# Altium integrated library NSC LDO.IntLib: 2590 symbols (part 3 of 64)
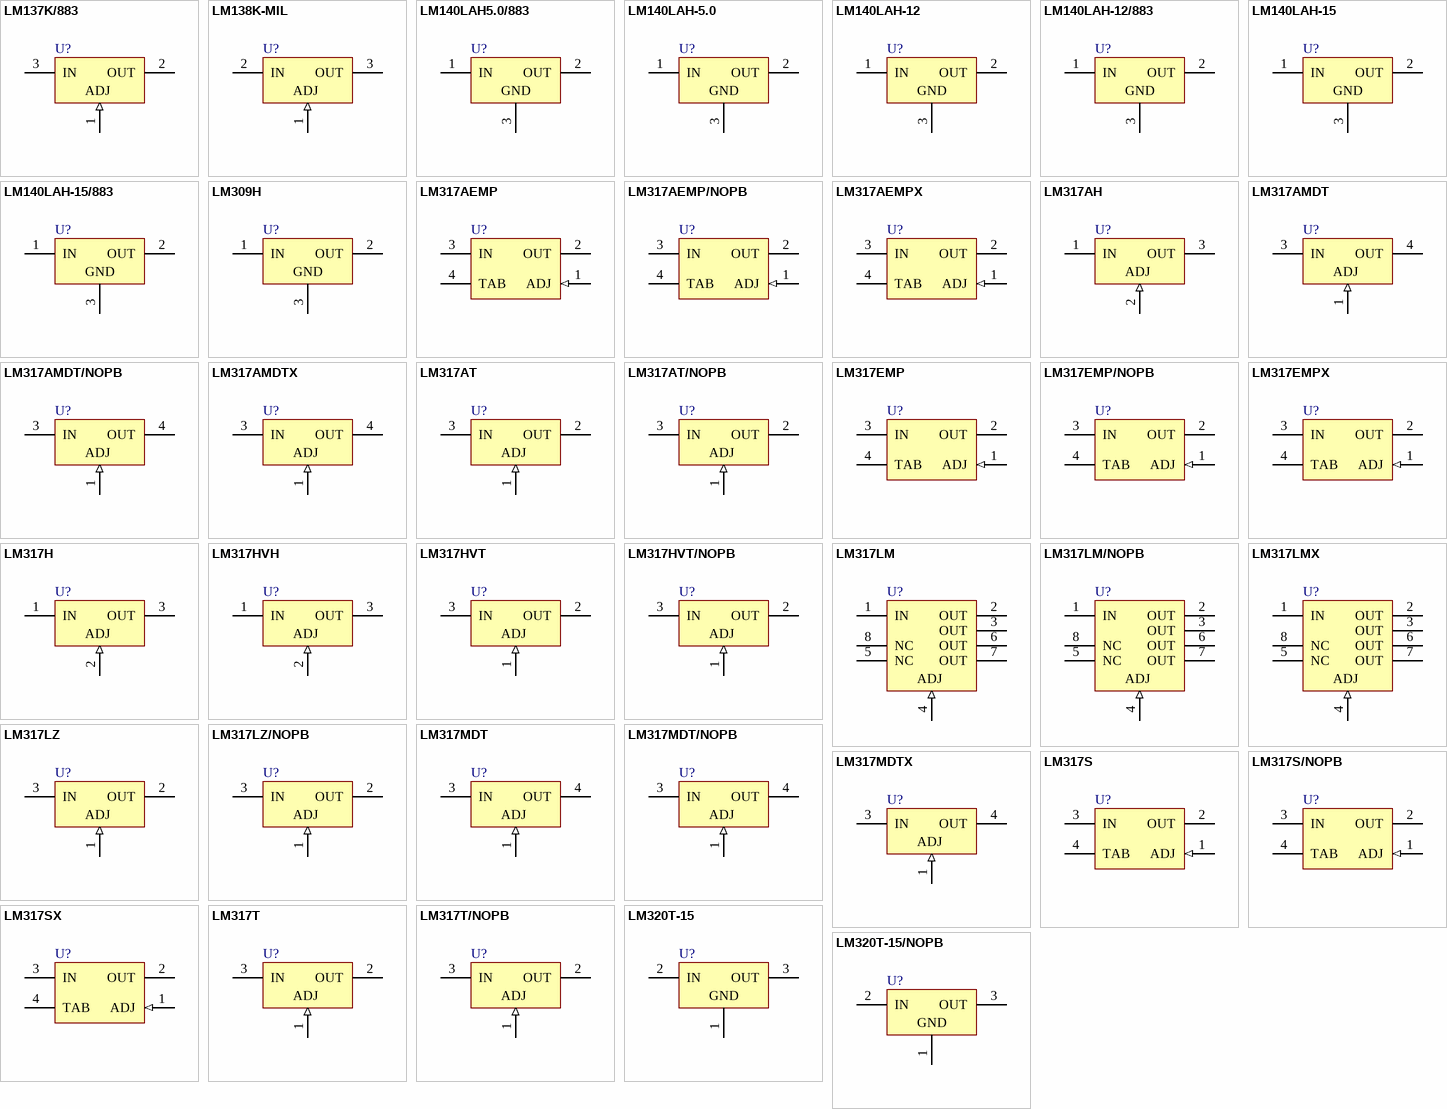
[diagram p67: symbols LM137K/883 to LM320T-15/NOPB]

## LM317EMP/NOPB
designator U?
3-Terminal Adjustable Regulator, 4-pin SOT-223, Pb-Free; PartNumber: LM317EMP/NOPB; Manufacturer: National Semiconductor; PackageTopMarking: XYTT*N01A; PowerWise: N; CompType: LDO IC; Published: 1-Mar-2010; DatasheetVersion: Apr-2007; PackageVersion: revB, Apr-2003; PackageReference: MP04A; Publisher: Altium Limited; PackageDescription: Molded SOT-223, 6.50 x 3.56 x 1.6mm Body, 4 Lead, 2.3mm Pitch; Supplier 1: Digi-Key; Supplier Part Number 1: LM317EMPTR-ND; Supplier 2: Digi-Key; Supplier Part Number 2: LM317EMPCT-ND; Supplier 3: Digi-Key; Supplier Part Number 3: LM317EMPDKR-ND; Supplier 4: Farnell; Supplier Part Number 4: 1469023; RoHS: Y; PinCount: 4; Code_JEDEC: TO-261-AA; Code_IPC: SOT223-4; ComponentLink1Description: LM317 Datasheet; ComponentLink1URL: http://www.national.com/ds/LM/LM317.pdf; ComponentLink2Description: LM317 Web Page; ComponentLink2URL: http://www.national.com/pf/LM/LM317.html; ComponentLink3Description: MP04A Package Page; ComponentLink3URL: http://www.national.com/packaging/folders/mp04a.html
footprint MP04A_N (SOT223, 4-Leads, Body 6.5x3.5mm, Pitch 2.3mm, Lead Span 7mm, IPC Medium Density)
footprint MP04A_L (SOT223, 4-Leads, Body 6.5x3.5mm, Pitch 2.3mm, Lead Span 7mm, IPC High Density)
footprint MP04A_M (SOT223, 4-Leads, Body 6.5x3.5mm, Pitch 2.3mm, Lead Span 7mm, IPC Low Density)
pins: 1 ADJ (in), 2 OUT (power), 3 IN (power), 4 TAB (power)

## LM317EMPX
designator U?
3-Terminal Adjustable Regulator, 4-pin SOT-223; PartNumber: LM317EMPX; Manufacturer: National Semiconductor; PackageTopMarking: XYTT*N01A; PowerWise: N; CompType: LDO IC; Published: 1-Mar-2010; DatasheetVersion: Apr-2007; PackageVersion: revB, Apr-2003; PackageReference: MP04A; Publisher: Altium Limited; PackageDescription: Molded SOT-223, 6.50 x 3.56 x 1.6mm Body, 4 Lead, 2.3mm Pitch; RoHS: N; PinCount: 4; Code_JEDEC: TO-261-AA; Code_IPC: SOT223-4; ComponentLink1Description: LM317 Datasheet; ComponentLink1URL: http://www.national.com/ds/LM/LM317.pdf; ComponentLink2Description: LM317 Web Page; ComponentLink2URL: http://www.national.com/pf/LM/LM317.html; ComponentLink3Description: MP04A Package Page; ComponentLink3URL: http://www.national.com/packaging/folders/mp04a.html
footprint MP04A_N (SOT223, 4-Leads, Body 6.5x3.5mm, Pitch 2.3mm, Lead Span 7mm, IPC Medium Density)
footprint MP04A_L (SOT223, 4-Leads, Body 6.5x3.5mm, Pitch 2.3mm, Lead Span 7mm, IPC High Density)
footprint MP04A_M (SOT223, 4-Leads, Body 6.5x3.5mm, Pitch 2.3mm, Lead Span 7mm, IPC Low Density)
pins: 1 ADJ (in), 2 OUT (power), 3 IN (power), 4 TAB (power)

## LM317H
designator U?
3-Terminal Adjustable Regulator, 3-pin TO-39; PartNumber: LM317H; Manufacturer: National Semiconductor; PackageTopMarking: NSZXYTTE# LM317HP+; PowerWise: N; CompType: LDO IC; High-Reliability: Y; Published: 4-Dec-2008; DatasheetVersion: Apr-2007; PackageVersion: revD, Feb-1995; PackageReference: H03A; Publisher: Altium Limited; PackageDescription: Metal Can, TO-39, 3 Lead, .200in Dia, P.C.; Supplier 1: Farnell; Supplier Part Number 1: 1216175; RoHS: N; PinCount: 3; Code_JEDEC: TO-39; ComponentLink1Description: LM317 Datasheet; ComponentLink1URL: http://www.national.com/ds/LM/LM317.pdf; ComponentLink2Description: LM317 Web Page; ComponentLink2URL: http://www.national.com/pf/LM/LM317.html; ComponentLink3Description: H03A Package Page; ComponentLink3URL: http://www.national.com/packaging/folders/h03a.html
footprint H03A (Can; 3 Leads; Pin Circle Dia. 5.08 mm; Lead Dia. 0.48 mm (max))
pins: 1 IN (power), 2 ADJ (in), 3 OUT (power)

## LM317HVH
designator U?
3-Terminal Adjustable Regulator, 3-pin TO-39; PartNumber: LM317HVH; Manufacturer: National Semiconductor; PackageTopMarking: NSZXYTTE# LM317HVHP+; PowerWise: N; CompType: LDO IC; High-Reliability: Y; Published: 4-Dec-2008; DatasheetVersion: Apr-2000; PackageVersion: revD, Feb-1995; PackageReference: H03A; Publisher: Altium Limited; PackageDescription: Metal Can, TO-39, 3 Lead, .200in Dia, P.C.; Supplier 1: Farnell; Supplier Part Number 1: 1215192; RoHS: N; PinCount: 3; Code_JEDEC: TO-39; ComponentLink1Description: LM317HV Datasheet; ComponentLink1URL: http://www.national.com/ds/LM/LM317HV.pdf; ComponentLink2Description: LM317HV Web Page; ComponentLink2URL: http://www.national.com/pf/LM/LM317HV.html; ComponentLink3Description: H03A Package Page; ComponentLink3URL: http://www.national.com/packaging/folders/h03a.html
footprint H03A (Can; 3 Leads; Pin Circle Dia. 5.08 mm; Lead Dia. 0.48 mm (max))
pins: 1 IN (power), 2 ADJ (in), 3 OUT (power)

## LM317HVT
designator U?
3-Terminal Adjustable Regulator, 3-pin TO-220; PartNumber: LM317HVT; Manufacturer: National Semiconductor; PackageTopMarking: NSUZXYTTE#*LM317*HVT P+; PowerWise: N; CompType: LDO IC; Published: 4-Dec-2008; DatasheetVersion: Apr-2000; PackageVersion: revL, Jan-1992; PackageReference: T03B; Publisher: Altium Limited; PackageDescription: TO-220, Molded, 3 Lead, Straight; Supplier 1: Farnell; Supplier Part Number 1: 9485716; Supplier 2: Farnell; Supplier Part Number 2: 1523823; RoHS: N; PinCount: 3; ComponentLink1Description: LM317HV Datasheet; ComponentLink1URL: http://www.national.com/ds/LM/LM317HV.pdf; ComponentLink2Description: LM317HV Web Page; ComponentLink2URL: http://www.national.com/pf/LM/LM317HV.html; ComponentLink3Description: T03B Package Page; ComponentLink3URL: http://www.national.com/packaging/folders/t03b.html
footprint T03B (TO, Thru-Hole, Vertical, Heatsink Mounted; 3 In-Line Leads; Pitch 2.54 mm)
pins: 1 ADJ (in), 2 OUT (power), 3 IN (power)

## LM317HVT/NOPB
designator U?
3-Terminal Adjustable Regulator, 3-pin TO-220, Pb-Free; PartNumber: LM317HVT/NOPB; Manufacturer: National Semiconductor; PackageTopMarking: NSUZXYTTE#*LM317*HVT P+; PowerWise: N; CompType: LDO IC; Published: 1-Mar-2010; DatasheetVersion: Apr-2000; PackageVersion: revL, Jan-1992; PackageReference: T03B; Publisher: Altium Limited; PackageDescription: TO-220, Molded, 3 Lead, Straight; Supplier 1: Digi-Key; Supplier Part Number 1: LM317HVT-ND; Supplier 2: Farnell; Supplier Part Number 2: 1469086; RoHS: Y; PinCount: 3; ComponentLink1Description: LM317HV Datasheet; ComponentLink1URL: http://www.national.com/ds/LM/LM317HV.pdf; ComponentLink2Description: LM317HV Web Page; ComponentLink2URL: http://www.national.com/pf/LM/LM317HV.html; ComponentLink3Description: T03B Package Page; ComponentLink3URL: http://www.national.com/packaging/folders/t03b.html
footprint T03B (TO, Thru-Hole, Vertical, Heatsink Mounted; 3 In-Line Leads; Pitch 2.54 mm)
pins: 1 ADJ (in), 2 OUT (power), 3 IN (power)

## LM317LM
designator U?
3-Terminal Adjustable Regulator, 8-pin Narrow SOIC; PartNumber: LM317LM; Manufacturer: National Semiconductor; PackageTopMarking: NSZXTT*LM317*LM; PowerWise: N; CompType: LDO IC; Published: 4-Dec-2008; DatasheetVersion: Apr-2008; PackageVersion: revM, May-2009; PackageReference: M08A; Publisher: Altium Limited; PackageDescription: SOIC Narrow, 4.9 x 3.9 x 1.45mm, 8 Lead, 1.27mm Pitch; Supplier 1: Farnell; Supplier Part Number 1: 9488537; RoHS: N; PinCount: 8; Code_JEDEC: MS-012-AA; Code_IPC: SOIC127P600-8; ComponentLink1Description: LM317L Datasheet; ComponentLink1URL: http://www.national.com/ds/LM/LM317L.pdf; ComponentLink2Description: LM317L Web Page; ComponentLink2URL: http://www.national.com/pf/LM/LM317L.html; ComponentLink3Description: M08A Package Page; ComponentLink3URL: http://www.national.com/packaging/folders/m08a.html
footprint M08A_N (SOIC, 8-Leads, Body 4.9x3.9mm, Pitch 1.27mm, IPC Medium Density)
footprint M08A_L (SOIC, 8-Leads, Body 4.9x3.9mm, Pitch 1.27mm, IPC High Density)
footprint M08A_M (SOIC, 8-Leads, Body 4.9x3.9mm, Pitch 1.27mm, IPC Low Density)
pins: 1 IN (power), 2 OUT (power), 3 OUT (power), 4 ADJ (in), 5 NC, 6 OUT (power), 7 OUT (power), 8 NC

## LM317LM/NOPB
designator U?
3-Terminal Adjustable Regulator, 8-pin Narrow SOIC, Pb-Free; PartNumber: LM317LM/NOPB; Manufacturer: National Semiconductor; PackageTopMarking: NSZXTT*LM317*LM; PowerWise: N; CompType: LDO IC; Published: 1-Mar-2010; DatasheetVersion: Apr-2008; PackageVersion: revM, May-2009; PackageReference: M08A; Publisher: Altium Limited; PackageDescription: SOIC Narrow, 4.9 x 3.9 x 1.45mm, 8 Lead, 1.27mm Pitch; Supplier 1: Digi-Key; Supplier Part Number 1: LM317LM-ND; Supplier 2: Farnell; Supplier Part Number 2: 1469087; RoHS: Y; PinCount: 8; Code_JEDEC: MS-012-AA; Code_IPC: SOIC127P600-8; ComponentLink1Description: LM317L Datasheet; ComponentLink1URL: http://www.national.com/ds/LM/LM317L.pdf; ComponentLink2Description: LM317L Web Page; ComponentLink2URL: http://www.national.com/pf/LM/LM317L.html; ComponentLink3Description: M08A Package Page; ComponentLink3URL: http://www.national.com/packaging/folders/m08a.html
footprint M08A_N (SOIC, 8-Leads, Body 4.9x3.9mm, Pitch 1.27mm, IPC Medium Density)
footprint M08A_L (SOIC, 8-Leads, Body 4.9x3.9mm, Pitch 1.27mm, IPC High Density)
footprint M08A_M (SOIC, 8-Leads, Body 4.9x3.9mm, Pitch 1.27mm, IPC Low Density)
pins: 1 IN (power), 2 OUT (power), 3 OUT (power), 4 ADJ (in), 5 NC, 6 OUT (power), 7 OUT (power), 8 NC

## LM317LMX
designator U?
3-Terminal Adjustable Regulator, 8-pin Narrow SOIC; PartNumber: LM317LMX; Manufacturer: National Semiconductor; PackageTopMarking: NSZXTT*LM317*LM; PowerWise: N; CompType: LDO IC; Published: 1-Mar-2010; DatasheetVersion: Apr-2008; PackageVersion: revM, May-2009; PackageReference: M08A; Publisher: Altium Limited; PackageDescription: SOIC Narrow, 4.9 x 3.9 x 1.45mm, 8 Lead, 1.27mm Pitch; RoHS: N; PinCount: 8; Code_JEDEC: MS-012-AA; Code_IPC: SOIC127P600-8; ComponentLink1Description: LM317L Datasheet; ComponentLink1URL: http://www.national.com/ds/LM/LM317L.pdf; ComponentLink2Description: LM317L Web Page; ComponentLink2URL: http://www.national.com/pf/LM/LM317L.html; ComponentLink3Description: M08A Package Page; ComponentLink3URL: http://www.national.com/packaging/folders/m08a.html
footprint M08A_N (SOIC, 8-Leads, Body 4.9x3.9mm, Pitch 1.27mm, IPC Medium Density)
footprint M08A_L (SOIC, 8-Leads, Body 4.9x3.9mm, Pitch 1.27mm, IPC High Density)
footprint M08A_M (SOIC, 8-Leads, Body 4.9x3.9mm, Pitch 1.27mm, IPC Low Density)
pins: 1 IN (power), 2 OUT (power), 3 OUT (power), 4 ADJ (in), 5 NC, 6 OUT (power), 7 OUT (power), 8 NC

## LM317LZ
designator U?
3-Terminal Adjustable Regulator, 3-pin TO-92; PartNumber: LM317LZ; Manufacturer: National Semiconductor; PackageTopMarking: NSXYTT*LM317*LZ; PowerWise: N; CompType: LDO IC; Published: 4-Dec-2008; DatasheetVersion: Apr-2008; PackageVersion: revG, Sep-2000; PackageReference: Z03A; Publisher: Altium Limited; PackageDescription: TO-92, Molded, 3 Lead; RoHS: N; PinCount: 3; Code_JEDEC: TO-226-AA; ComponentLink1Description: LM317L Datasheet; ComponentLink1URL: http://www.national.com/ds/LM/LM317L.pdf; ComponentLink2Description: LM317L Web Page; ComponentLink2URL: http://www.national.com/pf/LM/LM317L.html; ComponentLink3Description: Z03A Package Page; ComponentLink3URL: http://www.national.com/packaging/folders/z03a.html
footprint Z03A (TO, Flat Index; 3 In-Line, Axial Leads; Body Dia. 5mm; Leads 0.55 x 0.50 mm (max))
pins: 1 ADJ (in), 2 OUT (power), 3 IN (power)

## LM317LZ/NOPB
designator U?
3-Terminal Adjustable Regulator, 3-pin TO-92, Pb-Free; PartNumber: LM317LZ/NOPB; Manufacturer: National Semiconductor; PackageTopMarking: NSXYTT*LM317*LZ; PowerWise: N; CompType: LDO IC; Published: 1-Mar-2010; DatasheetVersion: Apr-2008; PackageVersion: revG, Sep-2000; PackageReference: Z03A; Publisher: Altium Limited; PackageDescription: TO-92, Molded, 3 Lead; Supplier 1: Digi-Key; Supplier Part Number 1: LM317LZNS-ND; Supplier 2: Farnell; Supplier Part Number 2: 1469088; RoHS: Y; PinCount: 3; Code_JEDEC: TO-226-AA; ComponentLink1Description: LM317L Datasheet; ComponentLink1URL: http://www.national.com/ds/LM/LM317L.pdf; ComponentLink2Description: LM317L Web Page; ComponentLink2URL: http://www.national.com/pf/LM/LM317L.html; ComponentLink3Description: Z03A Package Page; ComponentLink3URL: http://www.national.com/packaging/folders/z03a.html
footprint Z03A (TO, Flat Index; 3 In-Line, Axial Leads; Body Dia. 5mm; Leads 0.55 x 0.50 mm (max))
pins: 1 ADJ (in), 2 OUT (power), 3 IN (power)

## LM317MDT
designator U?
3-Terminal Adjustable Regulator, 3-pin TO-252; PartNumber: LM317MDT; Manufacturer: National Semiconductor; PackageTopMarking: NSUZXYTT*LM317*MDT; PowerWise: N; CompType: LDO IC; Published: 4-Dec-2008; DatasheetVersion: Apr-2007; PackageVersion: revD, Feb-2009; PackageReference: TD03B; Publisher: Altium Limited; PackageDescription: TO252, Molded, Jedec, 6.8 x 6.10 x 2.30mm Body, 3 Lead, 2.28mm Pitch, Surface Mount; Supplier 1: Farnell; Supplier Part Number 1: 8221928; RoHS: N; PinCount: 3; Code_JEDEC: TO-252-AA; ComponentLink1Description: LM317 Datasheet; ComponentLink1URL: http://www.national.com/ds/LM/LM317.pdf; ComponentLink2Description: LM317 Web Page; ComponentLink2URL: http://www.national.com/pf/LM/LM317.html; ComponentLink3Description: TD03B Package Page; ComponentLink3URL: http://www.national.com/packaging/folders/td03b.html
footprint TD03B_N (D-PAK, 4-Leads, Body 6.1x6.6mm, Pitch 2.29mm, Lead Span 9.7mm, IPC Medium Density)
footprint TD03B_L (D-PAK, 4-Leads, Body 6.1x6.6mm, Pitch 2.29mm, Lead Span 9.7mm, IPC High Density)
footprint TD03B_M (D-PAK, 4-Leads, Body 6.1x6.6mm, Pitch 2.29mm, Lead Span 9.7mm, IPC Low Density)
pins: 1 ADJ (in), 3 IN (power), 4 OUT (power)

## LM317MDT/NOPB
designator U?
3-Terminal Adjustable Regulator, 3-pin TO-252, Pb-Free; PartNumber: LM317MDT/NOPB; Manufacturer: National Semiconductor; PackageTopMarking: NSUZXYTT*LM317*MDT; PowerWise: N; CompType: LDO IC; Published: 1-Mar-2010; DatasheetVersion: Apr-2007; PackageVersion: revD, Feb-2009; PackageReference: TD03B; Publisher: Altium Limited; PackageDescription: TO252, Molded, Jedec, 6.8 x 6.10 x 2.30mm Body, 3 Lead, 2.28mm Pitch, Surface Mount; Supplier 1: Digi-Key; Supplier Part Number 1: LM317MDTNS-ND; Supplier 2: Farnell; Supplier Part Number 2: 1496138; RoHS: Y; PinCount: 3; Code_JEDEC: TO-252-AA; ComponentLink1Description: LM317 Datasheet; ComponentLink1URL: http://www.national.com/ds/LM/LM317.pdf; ComponentLink2Description: LM317 Web Page; ComponentLink2URL: http://www.national.com/pf/LM/LM317.html; ComponentLink3Description: TD03B Package Page; ComponentLink3URL: http://www.national.com/packaging/folders/td03b.html
footprint TD03B_N (D-PAK, 4-Leads, Body 6.1x6.6mm, Pitch 2.29mm, Lead Span 9.7mm, IPC Medium Density)
footprint TD03B_L (D-PAK, 4-Leads, Body 6.1x6.6mm, Pitch 2.29mm, Lead Span 9.7mm, IPC High Density)
footprint TD03B_M (D-PAK, 4-Leads, Body 6.1x6.6mm, Pitch 2.29mm, Lead Span 9.7mm, IPC Low Density)
pins: 1 ADJ (in), 3 IN (power), 4 OUT (power)

## LM317MDTX
designator U?
3-Terminal Adjustable Regulator, 3-pin TO-252; PartNumber: LM317MDTX; Manufacturer: National Semiconductor; PackageTopMarking: NSUZXYTT*LM317*MDT; PowerWise: N; CompType: LDO IC; Published: 1-Mar-2010; DatasheetVersion: Apr-2007; PackageVersion: revD, Feb-2009; PackageReference: TD03B; Publisher: Altium Limited; PackageDescription: TO252, Molded, Jedec, 6.8 x 6.10 x 2.30mm Body, 3 Lead, 2.28mm Pitch, Surface Mount; RoHS: N; PinCount: 3; Code_JEDEC: TO-252-AA; ComponentLink1Description: LM317 Datasheet; ComponentLink1URL: http://www.national.com/ds/LM/LM317.pdf; ComponentLink2Description: LM317 Web Page; ComponentLink2URL: http://www.national.com/pf/LM/LM317.html; ComponentLink3Description: TD03B Package Page; ComponentLink3URL: http://www.national.com/packaging/folders/td03b.html
footprint TD03B_N (D-PAK, 4-Leads, Body 6.1x6.6mm, Pitch 2.29mm, Lead Span 9.7mm, IPC Medium Density)
footprint TD03B_L (D-PAK, 4-Leads, Body 6.1x6.6mm, Pitch 2.29mm, Lead Span 9.7mm, IPC High Density)
footprint TD03B_M (D-PAK, 4-Leads, Body 6.1x6.6mm, Pitch 2.29mm, Lead Span 9.7mm, IPC Low Density)
pins: 1 ADJ (in), 3 IN (power), 4 OUT (power)

## LM317S
designator U?
3-Terminal Adjustable Regulator, 3-pin TO-263; PartNumber: LM317S; Manufacturer: National Semiconductor; PackageTopMarking: NSUZXYTTE#*LM317S*P+; PowerWise: N; CompType: LDO IC; Published: 4-Dec-2008; DatasheetVersion: Apr-2007; PackageVersion: revF, Apr-2005; PackageReference: TS3B; Publisher: Altium Limited; PackageDescription: TO-263, Molded, .400 x .390 x .180in, 3 Lead, .1in Pitch, Surface Mount; Supplier 1: Farnell; Supplier Part Number 1: 9494480; Supplier 2: Farnell; Supplier Part Number 2: 1523866; RoHS: N; PinCount: 3; Code_JEDEC: MO-169-AA; ComponentLink1Description: LM317 Datasheet; ComponentLink1URL: http://www.national.com/ds/LM/LM317.pdf; ComponentLink2Description: LM317 Web Page; ComponentLink2URL: http://www.national.com/pf/LM/LM317.html; ComponentLink3Description: TS3B Package Page; ComponentLink3URL: http://www.national.com/packaging/folders/ts3b.html
footprint TS3B_N (D2-PAK, 4-Leads, Body 8.6x10.2mm, Pitch 2.54mm, Lead Span 14.2mm, IPC Medium Density)
footprint TS3B_L (D2-PAK, 4-Leads, Body 8.6x10.2mm, Pitch 2.54mm, Lead Span 14.2mm, IPC High Density)
footprint TS3B_M (D2-PAK, 4-Leads, Body 8.6x10.2mm, Pitch 2.54mm, Lead Span 14.2mm, IPC Low Density)
pins: 1 ADJ (in), 2 OUT (power), 3 IN (power), 4 TAB (power)

## LM317S/NOPB
designator U?
3-Terminal Adjustable Regulator, 3-pin TO-263, Pb-Free; PartNumber: LM317S/NOPB; Manufacturer: National Semiconductor; PackageTopMarking: NSUZXYTTE#*LM317S*P+; PowerWise: N; CompType: LDO IC; Published: 1-Mar-2010; DatasheetVersion: Apr-2007; PackageVersion: revF, Apr-2005; PackageReference: TS3B; Publisher: Altium Limited; PackageDescription: TO-263, Molded, .400 x .390 x .180in, 3 Lead, .1in Pitch, Surface Mount; Supplier 1: Digi-Key; Supplier Part Number 1: LM317S-ND; Supplier 2: Farnell; Supplier Part Number 2: 1469089; RoHS: Y; PinCount: 3; Code_JEDEC: MO-169-AA; ComponentLink1Description: LM317 Datasheet; ComponentLink1URL: http://www.national.com/ds/LM/LM317.pdf; ComponentLink2Description: LM317 Web Page; ComponentLink2URL: http://www.national.com/pf/LM/LM317.html; ComponentLink3Description: TS3B Package Page; ComponentLink3URL: http://www.national.com/packaging/folders/ts3b.html
footprint TS3B_N (D2-PAK, 4-Leads, Body 8.6x10.2mm, Pitch 2.54mm, Lead Span 14.2mm, IPC Medium Density)
footprint TS3B_L (D2-PAK, 4-Leads, Body 8.6x10.2mm, Pitch 2.54mm, Lead Span 14.2mm, IPC High Density)
footprint TS3B_M (D2-PAK, 4-Leads, Body 8.6x10.2mm, Pitch 2.54mm, Lead Span 14.2mm, IPC Low Density)
pins: 1 ADJ (in), 2 OUT (power), 3 IN (power), 4 TAB (power)

## LM317SX
designator U?
3-Terminal Adjustable Regulator, 3-pin TO-263; PartNumber: LM317SX; Manufacturer: National Semiconductor; PackageTopMarking: NSUZXYTTE#*LM317S*P+; PowerWise: N; CompType: LDO IC; Published: 1-Mar-2010; DatasheetVersion: Apr-2007; PackageVersion: revF, Apr-2005; PackageReference: TS3B; Publisher: Altium Limited; PackageDescription: TO-263, Molded, .400 x .390 x .180in, 3 Lead, .1in Pitch, Surface Mount; RoHS: N; PinCount: 3; Code_JEDEC: MO-169-AA; ComponentLink1Description: LM317 Datasheet; ComponentLink1URL: http://www.national.com/ds/LM/LM317.pdf; ComponentLink2Description: LM317 Web Page; ComponentLink2URL: http://www.national.com/pf/LM/LM317.html; ComponentLink3Description: TS3B Package Page; ComponentLink3URL: http://www.national.com/packaging/folders/ts3b.html
footprint TS3B_N (D2-PAK, 4-Leads, Body 8.6x10.2mm, Pitch 2.54mm, Lead Span 14.2mm, IPC Medium Density)
footprint TS3B_L (D2-PAK, 4-Leads, Body 8.6x10.2mm, Pitch 2.54mm, Lead Span 14.2mm, IPC High Density)
footprint TS3B_M (D2-PAK, 4-Leads, Body 8.6x10.2mm, Pitch 2.54mm, Lead Span 14.2mm, IPC Low Density)
pins: 1 ADJ (in), 2 OUT (power), 3 IN (power), 4 TAB (power)

## LM317T
designator U?
3-Terminal Adjustable Regulator, 3-pin TO-220; PartNumber: LM317T; Manufacturer: National Semiconductor; PackageTopMarking: NSUZXYTTE#*LM317T P+; PowerWise: N; CompType: LDO IC; Published: 4-Dec-2008; DatasheetVersion: Apr-2007; PackageVersion: revL, Jan-1992; PackageReference: T03B; Publisher: Altium Limited; PackageDescription: TO-220, Molded, 3 Lead, Straight; Supplier 1: Farnell; Supplier Part Number 1: 1523842; RoHS: N; PinCount: 3; ComponentLink1Description: LM317 Datasheet; ComponentLink1URL: http://www.national.com/ds/LM/LM317.pdf; ComponentLink2Description: LM317 Web Page; ComponentLink2URL: http://www.national.com/pf/LM/LM317.html; ComponentLink3Description: T03B Package Page; ComponentLink3URL: http://www.national.com/packaging/folders/t03b.html
footprint T03B (TO, Thru-Hole, Vertical, Heatsink Mounted; 3 In-Line Leads; Pitch 2.54 mm)
pins: 1 ADJ (in), 2 OUT (power), 3 IN (power)

## LM317T/NOPB
designator U?
3-Terminal Adjustable Regulator, 3-pin TO-220, Pb-Free; PartNumber: LM317T/NOPB; Manufacturer: National Semiconductor; PackageTopMarking: NSUZXYTTE#*LM317T P+; PowerWise: N; CompType: LDO IC; Published: 1-Mar-2010; DatasheetVersion: Apr-2007; PackageVersion: revL, Jan-1992; PackageReference: T03B; Publisher: Altium Limited; PackageDescription: TO-220, Molded, 3 Lead, Straight; Supplier 1: Digi-Key; Supplier Part Number 1: LM317TNS-ND; Supplier 2: Farnell; Supplier Part Number 2: 1469090; RoHS: Y; PinCount: 3; ComponentLink1Description: LM317 Datasheet; ComponentLink1URL: http://www.national.com/ds/LM/LM317.pdf; ComponentLink2Description: LM317 Web Page; ComponentLink2URL: http://www.national.com/pf/LM/LM317.html; ComponentLink3Description: T03B Package Page; ComponentLink3URL: http://www.national.com/packaging/folders/t03b.html
footprint T03B (TO, Thru-Hole, Vertical, Heatsink Mounted; 3 In-Line Leads; Pitch 2.54 mm)
pins: 1 ADJ (in), 2 OUT (power), 3 IN (power)

## LM320T-15
designator U?
Series 3-Terminal Negative Regulators, 3-pin TO-220; PartNumber: LM320T-15; Manufacturer: National Semiconductor; PackageTopMarking: NSUZXYTTE#*LM320T*-15 P+; PowerWise: N; CompType: LDO IC; Published: 4-Dec-2008; DatasheetVersion: Nov-2007; PackageVersion: revL, Jan-1992; PackageReference: T03B; Publisher: Altium Limited; PackageDescription: TO-220, Molded, 3 Lead, Straight; RoHS: N; PinCount: 3; ComponentLink1Description: LM320 Datasheet; ComponentLink1URL: http://www.national.com/ds/LM/LM320.pdf; ComponentLink2Description: LM320 Web Page; ComponentLink2URL: http://www.national.com/pf/LM/LM320.html; ComponentLink3Description: T03B Package Page; ComponentLink3URL: http://www.national.com/packaging/folders/t03b.html
footprint T03B (TO, Thru-Hole, Vertical, Heatsink Mounted; 3 In-Line Leads; Pitch 2.54 mm)
pins: 1 GND (power), 2 IN (power), 3 OUT (power)

## LM320T-15/NOPB
designator U?
Series 3-Terminal Negative Regulators, 3-pin TO-220, Pb-Free; PartNumber: LM320T-15/NOPB; Manufacturer: National Semiconductor; PackageTopMarking: NSUZXYTTE#*LM320T*-15 P+; PowerWise: N; CompType: LDO IC; Published: 1-Mar-2010; DatasheetVersion: Nov-2007; PackageVersion: revL, Jan-1992; PackageReference: T03B; Publisher: Altium Limited; PackageDescription: TO-220, Molded, 3 Lead, Straight; Supplier 1: Digi-Key; Supplier Part Number 1: LM320T-15-ND; Supplier 2: Farnell; Supplier Part Number 2: 1469091; RoHS: Y; PinCount: 3; ComponentLink1Description: LM320 Datasheet; ComponentLink1URL: http://www.national.com/ds/LM/LM320.pdf; ComponentLink2Description: LM320 Web Page; ComponentLink2URL: http://www.national.com/pf/LM/LM320.html; ComponentLink3Description: T03B Package Page; ComponentLink3URL: http://www.national.com/packaging/folders/t03b.html
footprint T03B (TO, Thru-Hole, Vertical, Heatsink Mounted; 3 In-Line Leads; Pitch 2.54 mm)
pins: 1 GND (power), 2 IN (power), 3 OUT (power)

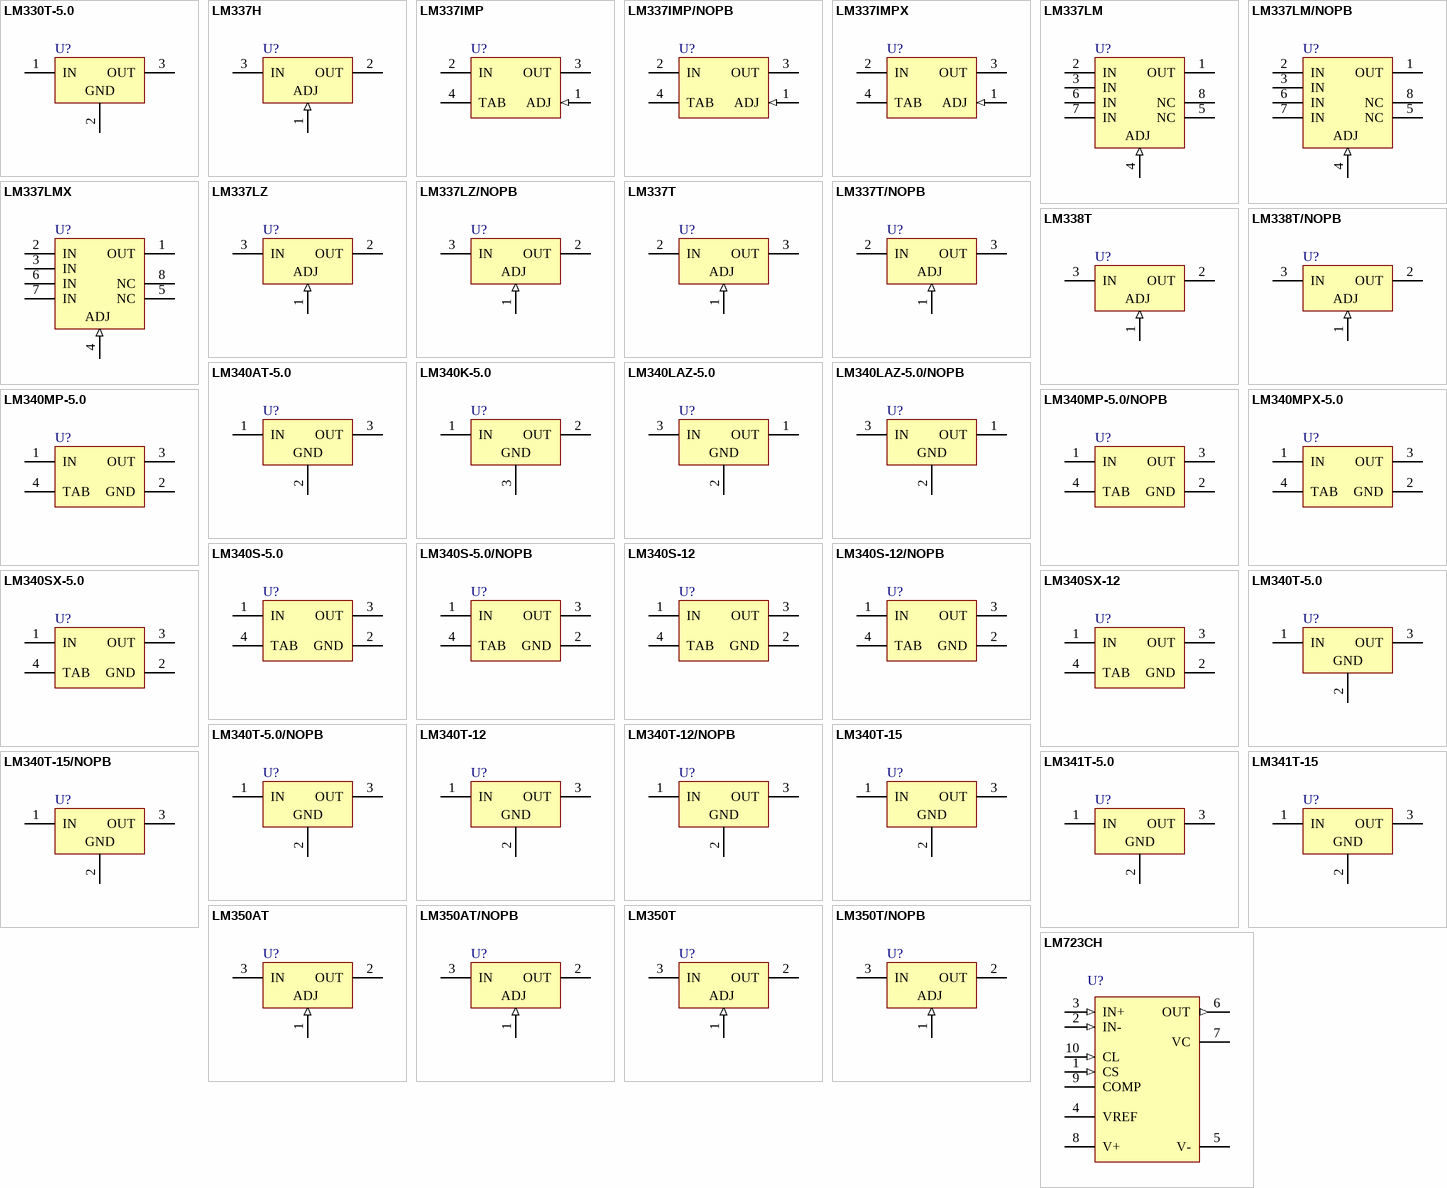
[diagram p3: symbols LM330T-5.0 to LM723CH]

## LM330T-5.0
designator U?
3-Terminal Positive Regulator, 3-pin TO-220; PartNumber: LM330T-5.0; Manufacturer: National Semiconductor; PackageTopMarking: NSUZXYTTE#*LM330T*-5.0; PowerWise: N; CompType: LDO IC; Published: 4-Dec-2008; DatasheetVersion: May-1998; PackageVersion: revL, Jan-1992; PackageReference: T03B; Publisher: Altium Limited; PackageDescription: TO-220, Molded, 3 Lead, Straight; RoHS: N; PinCount: 3; ComponentLink1Description: LM330 Datasheet; ComponentLink1URL: http://www.national.com/ds/LM/LM330.pdf; ComponentLink2Description: LM330 Web Page; ComponentLink2URL: http://www.national.com/pf/LM/LM330.html; ComponentLink3Description: T03B Package Page; ComponentLink3URL: http://www.national.com/packaging/folders/t03b.html
footprint T03B (TO, Thru-Hole, Vertical, Heatsink Mounted; 3 In-Line Leads; Pitch 2.54 mm)
pins: 1 IN (power), 2 GND (power), 3 OUT (power)

## LM337H
designator U?
3-Terminal Adjustable Negative Regulator, 3-pin TO-39; PartNumber: LM337H; Manufacturer: National Semiconductor; PackageTopMarking: NSZXYTTE# LM337H; PowerWise: N; CompType: LDO IC; High-Reliability: Y; Published: 4-Dec-2008; DatasheetVersion: Nov-2004; PackageVersion: revD, Feb-1995; PackageReference: H03A; Publisher: Altium Limited; PackageDescription: Metal Can, TO-39, 3 Lead, .200in Dia, P.C.; Supplier 1: Digi-Key; Supplier Part Number 1: LM337H-ND; Supplier 2: Newark; Supplier Part Number 2: 13B5653; RoHS: N; PinCount: 3; Code_JEDEC: TO-39; ComponentLink1Description: LM337 Datasheet; ComponentLink1URL: http://www.national.com/ds/LM/LM337.pdf; ComponentLink2Description: LM337 Web Page; ComponentLink2URL: http://www.national.com/pf/LM/LM337.html; ComponentLink3Description: H03A Package Page; ComponentLink3URL: http://www.national.com/packaging/folders/h03a.html
footprint H03A (Can; 3 Leads; Pin Circle Dia. 5.08 mm; Lead Dia. 0.48 mm (max))
pins: 1 ADJ (in), 2 OUT (power), 3 IN (power)

## LM337IMP
designator U?
3-Terminal Adjustable Negative Regulator, 4-pin SOT-223; PartNumber: LM337IMP; Manufacturer: National Semiconductor; PackageTopMarking: XYTT*N02A; PowerWise: N; CompType: LDO IC; Published: 4-Dec-2008; DatasheetVersion: Nov-2004; PackageVersion: revB, Apr-2003; PackageReference: MP04A; Publisher: Altium Limited; PackageDescription: Molded SOT-223, 6.50 x 3.56 x 1.6mm Body, 4 Lead, 2.3mm Pitch; Supplier 1: Farnell; Supplier Part Number 1: 9779213RL; Supplier 2: Farnell; Supplier Part Number 2: 9779213; RoHS: N; PinCount: 4; Code_JEDEC: TO-261-AA; Code_IPC: SOT223-4; ComponentLink1Description: LM337 Datasheet; ComponentLink1URL: http://www.national.com/ds/LM/LM337.pdf; ComponentLink2Description: LM337 Web Page; ComponentLink2URL: http://www.national.com/pf/LM/LM337.html; ComponentLink3Description: MP04A Package Page; ComponentLink3URL: http://www.national.com/packaging/folders/mp04a.html
footprint MP04A_N (SOT223, 4-Leads, Body 6.5x3.5mm, Pitch 2.3mm, Lead Span 7mm, IPC Medium Density)
footprint MP04A_L (SOT223, 4-Leads, Body 6.5x3.5mm, Pitch 2.3mm, Lead Span 7mm, IPC High Density)
footprint MP04A_M (SOT223, 4-Leads, Body 6.5x3.5mm, Pitch 2.3mm, Lead Span 7mm, IPC Low Density)
pins: 1 ADJ (in), 2 IN (power), 3 OUT (power), 4 TAB (power)

## LM337IMP/NOPB
designator U?
3-Terminal Adjustable Negative Regulator, 4-pin SOT-223, Pb-Free; PartNumber: LM337IMP/NOPB; Manufacturer: National Semiconductor; PackageTopMarking: XYTT*N02A; PowerWise: N; CompType: LDO IC; Published: 1-Mar-2010; DatasheetVersion: Nov-2004; PackageVersion: revB, Apr-2003; PackageReference: MP04A; Publisher: Altium Limited; PackageDescription: Molded SOT-223, 6.50 x 3.56 x 1.6mm Body, 4 Lead, 2.3mm Pitch; Supplier 1: Digi-Key; Supplier Part Number 1: LM337IMPTR-ND; Supplier 2: Digi-Key; Supplier Part Number 2: LM337IMPCT-ND; Supplier 3: Digi-Key; Supplier Part Number 3: LM337IMPDKR-ND; RoHS: Y; PinCount: 4; Code_JEDEC: TO-261-AA; Code_IPC: SOT223-4; ComponentLink1Description: LM337 Datasheet; ComponentLink1URL: http://www.national.com/ds/LM/LM337.pdf; ComponentLink2Description: LM337 Web Page; ComponentLink2URL: http://www.national.com/pf/LM/LM337.html; ComponentLink3Description: MP04A Package Page; ComponentLink3URL: http://www.national.com/packaging/folders/mp04a.html
footprint MP04A_N (SOT223, 4-Leads, Body 6.5x3.5mm, Pitch 2.3mm, Lead Span 7mm, IPC Medium Density)
footprint MP04A_L (SOT223, 4-Leads, Body 6.5x3.5mm, Pitch 2.3mm, Lead Span 7mm, IPC High Density)
footprint MP04A_M (SOT223, 4-Leads, Body 6.5x3.5mm, Pitch 2.3mm, Lead Span 7mm, IPC Low Density)
pins: 1 ADJ (in), 2 IN (power), 3 OUT (power), 4 TAB (power)

## LM337IMPX
designator U?
3-Terminal Adjustable Negative Regulator, 4-pin SOT-223; PartNumber: LM337IMPX; Manufacturer: National Semiconductor; PackageTopMarking: XYTT*N02A; PowerWise: N; CompType: LDO IC; Published: 1-Mar-2010; DatasheetVersion: Nov-2004; PackageVersion: revB, Apr-2003; PackageReference: MP04A; Publisher: Altium Limited; PackageDescription: Molded SOT-223, 6.50 x 3.56 x 1.6mm Body, 4 Lead, 2.3mm Pitch; RoHS: N; PinCount: 4; Code_JEDEC: TO-261-AA; Code_IPC: SOT223-4; ComponentLink1Description: LM337 Datasheet; ComponentLink1URL: http://www.national.com/ds/LM/LM337.pdf; ComponentLink2Description: LM337 Web Page; ComponentLink2URL: http://www.national.com/pf/LM/LM337.html; ComponentLink3Description: MP04A Package Page; ComponentLink3URL: http://www.national.com/packaging/folders/mp04a.html
footprint MP04A_N (SOT223, 4-Leads, Body 6.5x3.5mm, Pitch 2.3mm, Lead Span 7mm, IPC Medium Density)
footprint MP04A_L (SOT223, 4-Leads, Body 6.5x3.5mm, Pitch 2.3mm, Lead Span 7mm, IPC High Density)
footprint MP04A_M (SOT223, 4-Leads, Body 6.5x3.5mm, Pitch 2.3mm, Lead Span 7mm, IPC Low Density)
pins: 1 ADJ (in), 2 IN (power), 3 OUT (power), 4 TAB (power)

## LM337LM
designator U?
3-Terminal Adjustable Regulator, 8-pin Narrow SOIC; PartNumber: LM337LM; Manufacturer: National Semiconductor; PackageTopMarking: NSZXTT*LM337*LM; PowerWise: N; CompType: LDO IC; Published: 4-Dec-2008; DatasheetVersion: Jun-2005; PackageVersion: revM, May-2009; PackageReference: M08A; Publisher: Altium Limited; PackageDescription: SOIC Narrow, 4.9 x 3.9 x 1.45mm, 8 Lead, 1.27mm Pitch; Supplier 1: Farnell; Supplier Part Number 1: 9485945; RoHS: N; PinCount: 8; Code_JEDEC: MS-012-AA; Code_IPC: SOIC127P600-8; ComponentLink1Description: LM337L Datasheet; ComponentLink1URL: http://www.national.com/ds/LM/LM337L.pdf; ComponentLink2Description: LM337L Web Page; ComponentLink2URL: http://www.national.com/pf/LM/LM337L.html; ComponentLink3Description: M08A Package Page; ComponentLink3URL: http://www.national.com/packaging/folders/m08a.html
footprint M08A_N (SOIC, 8-Leads, Body 4.9x3.9mm, Pitch 1.27mm, IPC Medium Density)
footprint M08A_L (SOIC, 8-Leads, Body 4.9x3.9mm, Pitch 1.27mm, IPC High Density)
footprint M08A_M (SOIC, 8-Leads, Body 4.9x3.9mm, Pitch 1.27mm, IPC Low Density)
pins: 1 OUT (power), 2 IN (power), 3 IN (power), 4 ADJ (in), 5 NC, 6 IN (power), 7 IN (power), 8 NC

## LM337LM/NOPB
designator U?
3-Terminal Adjustable Regulator, 8-pin Narrow SOIC, Pb-Free; PartNumber: LM337LM/NOPB; Manufacturer: National Semiconductor; PackageTopMarking: NSZXTT*LM337*LM; PowerWise: N; CompType: LDO IC; Published: 1-Mar-2010; DatasheetVersion: Jun-2005; PackageVersion: revM, May-2009; PackageReference: M08A; Publisher: Altium Limited; PackageDescription: SOIC Narrow, 4.9 x 3.9 x 1.45mm, 8 Lead, 1.27mm Pitch; Supplier 1: Digi-Key; Supplier Part Number 1: LM337LM-ND; Supplier 2: Farnell; Supplier Part Number 2: 1469092; RoHS: Y; PinCount: 8; Code_JEDEC: MS-012-AA; Code_IPC: SOIC127P600-8; ComponentLink1Description: LM337L Datasheet; ComponentLink1URL: http://www.national.com/ds/LM/LM337L.pdf; ComponentLink2Description: LM337L Web Page; ComponentLink2URL: http://www.national.com/pf/LM/LM337L.html; ComponentLink3Description: M08A Package Page; ComponentLink3URL: http://www.national.com/packaging/folders/m08a.html
footprint M08A_N (SOIC, 8-Leads, Body 4.9x3.9mm, Pitch 1.27mm, IPC Medium Density)
footprint M08A_L (SOIC, 8-Leads, Body 4.9x3.9mm, Pitch 1.27mm, IPC High Density)
footprint M08A_M (SOIC, 8-Leads, Body 4.9x3.9mm, Pitch 1.27mm, IPC Low Density)
pins: 1 OUT (power), 2 IN (power), 3 IN (power), 4 ADJ (in), 5 NC, 6 IN (power), 7 IN (power), 8 NC

## LM337LMX
designator U?
3-Terminal Adjustable Regulator, 8-pin Narrow SOIC; PartNumber: LM337LMX; Manufacturer: National Semiconductor; PackageTopMarking: NSZXTT*LM337*LM; PowerWise: N; CompType: LDO IC; Published: 1-Mar-2010; DatasheetVersion: Jun-2005; PackageVersion: revM, May-2009; PackageReference: M08A; Publisher: Altium Limited; PackageDescription: SOIC Narrow, 4.9 x 3.9 x 1.45mm, 8 Lead, 1.27mm Pitch; RoHS: N; PinCount: 8; Code_JEDEC: MS-012-AA; Code_IPC: SOIC127P600-8; ComponentLink1Description: LM337L Datasheet; ComponentLink1URL: http://www.national.com/ds/LM/LM337L.pdf; ComponentLink2Description: LM337L Web Page; ComponentLink2URL: http://www.national.com/pf/LM/LM337L.html; ComponentLink3Description: M08A Package Page; ComponentLink3URL: http://www.national.com/packaging/folders/m08a.html
footprint M08A_N (SOIC, 8-Leads, Body 4.9x3.9mm, Pitch 1.27mm, IPC Medium Density)
footprint M08A_L (SOIC, 8-Leads, Body 4.9x3.9mm, Pitch 1.27mm, IPC High Density)
footprint M08A_M (SOIC, 8-Leads, Body 4.9x3.9mm, Pitch 1.27mm, IPC Low Density)
pins: 1 OUT (power), 2 IN (power), 3 IN (power), 4 ADJ (in), 5 NC, 6 IN (power), 7 IN (power), 8 NC

## LM337LZ
designator U?
3-Terminal Adjustable Regulator, 3-pin TO-92; PartNumber: LM337LZ; Manufacturer: National Semiconductor; PackageTopMarking: NSXYTT*LM337*LZ; PowerWise: N; CompType: LDO IC; Published: 4-Dec-2008; DatasheetVersion: Jun-2005; PackageVersion: revG, Sep-2000; PackageReference: Z03A; Publisher: Altium Limited; PackageDescription: TO-92, Molded, 3 Lead; Supplier 1: Farnell; Supplier Part Number 1: 9489347; RoHS: N; PinCount: 3; Code_JEDEC: TO-226-AA; ComponentLink1Description: LM337L Datasheet; ComponentLink1URL: http://www.national.com/ds/LM/LM337L.pdf; ComponentLink2Description: LM337L Web Page; ComponentLink2URL: http://www.national.com/pf/LM/LM337L.html; ComponentLink3Description: Z03A Package Page; ComponentLink3URL: http://www.national.com/packaging/folders/z03a.html
footprint Z03A (TO, Flat Index; 3 In-Line, Axial Leads; Body Dia. 5mm; Leads 0.55 x 0.50 mm (max))
pins: 1 ADJ (in), 2 OUT (power), 3 IN (power)

## LM337LZ/NOPB
designator U?
3-Terminal Adjustable Regulator, 3-pin TO-92, Pb-Free; PartNumber: LM337LZ/NOPB; Manufacturer: National Semiconductor; PackageTopMarking: NSXYTT*LM337*LZ; PowerWise: N; CompType: LDO IC; Published: 1-Mar-2010; DatasheetVersion: Jun-2005; PackageVersion: revG, Sep-2000; PackageReference: Z03A; Publisher: Altium Limited; PackageDescription: TO-92, Molded, 3 Lead; Supplier 1: Digi-Key; Supplier Part Number 1: LM337LZ-ND; Supplier 2: Farnell; Supplier Part Number 2: 1469093; RoHS: Y; PinCount: 3; Code_JEDEC: TO-226-AA; ComponentLink1Description: LM337L Datasheet; ComponentLink1URL: http://www.national.com/ds/LM/LM337L.pdf; ComponentLink2Description: LM337L Web Page; ComponentLink2URL: http://www.national.com/pf/LM/LM337L.html; ComponentLink3Description: Z03A Package Page; ComponentLink3URL: http://www.national.com/packaging/folders/z03a.html
footprint Z03A (TO, Flat Index; 3 In-Line, Axial Leads; Body Dia. 5mm; Leads 0.55 x 0.50 mm (max))
pins: 1 ADJ (in), 2 OUT (power), 3 IN (power)

## LM337T
designator U?
3-Terminal Adjustable Negative Regulator, 3-pin TO-220; PartNumber: LM337T; Manufacturer: National Semiconductor; PackageTopMarking: NSUZXYTTE#*LM337T P+; PowerWise: N; CompType: LDO IC; Published: 4-Dec-2008; DatasheetVersion: Nov-2004; PackageVersion: revL, Jan-1992; PackageReference: T03B; Publisher: Altium Limited; PackageDescription: TO-220, Molded, 3 Lead, Straight; Supplier 1: Farnell; Supplier Part Number 1: 9489401; RoHS: N; PinCount: 3; ComponentLink1Description: LM337 Datasheet; ComponentLink1URL: http://www.national.com/ds/LM/LM337.pdf; ComponentLink2Description: LM337 Web Page; ComponentLink2URL: http://www.national.com/pf/LM/LM337.html; ComponentLink3Description: T03B Package Page; ComponentLink3URL: http://www.national.com/packaging/folders/t03b.html
footprint T03B (TO, Thru-Hole, Vertical, Heatsink Mounted; 3 In-Line Leads; Pitch 2.54 mm)
pins: 1 ADJ (in), 2 IN (power), 3 OUT (power)

## LM337T/NOPB
designator U?
3-Terminal Adjustable Negative Regulator, 3-pin TO-220, Pb-Free; PartNumber: LM337T/NOPB; Manufacturer: National Semiconductor; PackageTopMarking: NSUZXYTTE#*LM337T P+; PowerWise: N; CompType: LDO IC; Published: 1-Mar-2010; DatasheetVersion: Nov-2004; PackageVersion: revL, Jan-1992; PackageReference: T03B; Publisher: Altium Limited; PackageDescription: TO-220, Molded, 3 Lead, Straight; Supplier 1: Digi-Key; Supplier Part Number 1: LM337TNS-ND; Supplier 2: Farnell; Supplier Part Number 2: 1327895; RoHS: Y; PinCount: 3; ComponentLink1Description: LM337 Datasheet; ComponentLink1URL: http://www.national.com/ds/LM/LM337.pdf; ComponentLink2Description: LM337 Web Page; ComponentLink2URL: http://www.national.com/pf/LM/LM337.html; ComponentLink3Description: T03B Package Page; ComponentLink3URL: http://www.national.com/packaging/folders/t03b.html
footprint T03B (TO, Thru-Hole, Vertical, Heatsink Mounted; 3 In-Line Leads; Pitch 2.54 mm)
pins: 1 ADJ (in), 2 IN (power), 3 OUT (power)

## LM338T
designator U?
5 Amp Adjustable Regulator, 3-pin TO-220; PartNumber: LM338T; Manufacturer: National Semiconductor; PackageTopMarking: NSUZXYTTE#*LM338T P+; PowerWise: N; CompType: LDO IC; Published: 4-Dec-2008; DatasheetVersion: May-1998; PackageVersion: revL, Jan-1992; PackageReference: T03B; Publisher: Altium Limited; PackageDescription: TO-220, Molded, 3 Lead, Straight; Supplier 1: Farnell; Supplier Part Number 1: 9489428; RoHS: N; PinCount: 3; ComponentLink1Description: LM338 Datasheet; ComponentLink1URL: http://www.national.com/ds/LM/LM338.pdf; ComponentLink2Description: LM338 Web Page; ComponentLink2URL: http://www.national.com/pf/LM/LM338.html; ComponentLink3Description: T03B Package Page; ComponentLink3URL: http://www.national.com/packaging/folders/t03b.html
footprint T03B (TO, Thru-Hole, Vertical, Heatsink Mounted; 3 In-Line Leads; Pitch 2.54 mm)
pins: 1 ADJ (in), 2 OUT (power), 3 IN (power)

## LM338T/NOPB
designator U?
5 Amp Adjustable Regulator, 3-pin TO-220, Pb-Free; PartNumber: LM338T/NOPB; Manufacturer: National Semiconductor; PackageTopMarking: NSUZXYTTE#*LM338T P+; PowerWise: N; CompType: LDO IC; Published: 1-Mar-2010; DatasheetVersion: May-1998; PackageVersion: revL, Jan-1992; PackageReference: T03B; Publisher: Altium Limited; PackageDescription: TO-220, Molded, 3 Lead, Straight; Supplier 1: Digi-Key; Supplier Part Number 1: LM338T-ND; Supplier 2: Farnell; Supplier Part Number 2: 1469094; RoHS: Y; PinCount: 3; ComponentLink1Description: LM338 Datasheet; ComponentLink1URL: http://www.national.com/ds/LM/LM338.pdf; ComponentLink2Description: LM338 Web Page; ComponentLink2URL: http://www.national.com/pf/LM/LM338.html; ComponentLink3Description: T03B Package Page; ComponentLink3URL: http://www.national.com/packaging/folders/t03b.html
footprint T03B (TO, Thru-Hole, Vertical, Heatsink Mounted; 3 In-Line Leads; Pitch 2.54 mm)
pins: 1 ADJ (in), 2 OUT (power), 3 IN (power)

## LM340AT-5.0
designator U?
Series 3-Terminal Positive Regulators, 3-pin TO-220; PartNumber: LM340AT-5.0; Manufacturer: National Semiconductor; PackageTopMarking: NSUZXYTTE#*LM340AT*5.0 P+; PowerWise: N; CompType: LDO IC; Published: 4-Dec-2008; DatasheetVersion: Jul-2006; PackageVersion: revL, Jan-1992; PackageReference: T03B; Publisher: Altium Limited; PackageDescription: TO-220, Molded, 3 Lead, Straight; Supplier 1: Farnell; Supplier Part Number 1: 9490183; RoHS: N; PinCount: 3; ComponentLink1Description: LM340 Datasheet; ComponentLink1URL: http://www.national.com/ds/LM/LM340.pdf; ComponentLink2Description: LM340 Web Page; ComponentLink2URL: http://www.national.com/pf/LM/LM340.html; ComponentLink3Description: T03B Package Page; ComponentLink3URL: http://www.national.com/packaging/folders/t03b.html
footprint T03B (TO, Thru-Hole, Vertical, Heatsink Mounted; 3 In-Line Leads; Pitch 2.54 mm)
pins: 1 IN (power), 2 GND (power), 3 OUT (power)

## LM340K-5.0
designator U?
Series 3-Terminal Positive Regulators, 3-pin TO-3; PartNumber: LM340K-5.0; Manufacturer: National Semiconductor; PackageTopMarking: NS*ZXYTTE#*LM340K*-5.0 7805P+; PowerWise: N; CompType: LDO IC; High-Reliability: Y; Published: 4-Dec-2008; DatasheetVersion: Jul-2006; PackageVersion: revG, Oct-1991; PackageReference: K02A; Publisher: Altium Limited; PackageDescription: Metal Can (KA) TO-3, 2 Lead; Supplier 1: Farnell; Supplier Part Number 1: 1216179; RoHS: N; PinCount: 2; ComponentLink1Description: LM340 Datasheet; ComponentLink1URL: http://www.national.com/ds/LM/LM340.pdf; ComponentLink2Description: LM340 Web Page; ComponentLink2URL: http://www.national.com/pf/LM/LM340.html; ComponentLink3Description: K02A Package Page; ComponentLink3URL: http://www.national.com/packaging/folders/k02a.html
footprint K02A (Oval Flange Mount with (2) Offset Leads; Pin Spacing 10.93 mm; Lead Dia. 1.09 mm (max))
pins: 1 IN (power), 2 OUT (power), 3 GND (power)

## LM340LAZ-5.0
designator U?
Series 3-Terminal Positive Regulators, 3-pin TO-92; PartNumber: LM340LAZ-5.0; Manufacturer: National Semiconductor; PackageTopMarking: NSXYTT*340LA*Z-5.0; PowerWise: N; CompType: LDO IC; Published: 4-Dec-2008; DatasheetVersion: Jul-2005; PackageVersion: revG, Sep-2000; PackageReference: Z03A; Publisher: Altium Limited; PackageDescription: TO-92, Molded, 3 Lead; Supplier 1: Farnell; Supplier Part Number 1: 9489452; RoHS: N; PinCount: 3; Code_JEDEC: TO-226-AA; ComponentLink1Description: LM340L Datasheet; ComponentLink1URL: http://www.national.com/ds/LM/LM340L.pdf; ComponentLink2Description: LM340L Web Page; ComponentLink2URL: http://www.national.com/pf/LM/LM340L.html; ComponentLink3Description: Z03A Package Page; ComponentLink3URL: http://www.national.com/packaging/folders/z03a.html
footprint Z03A (TO, Flat Index; 3 In-Line, Axial Leads; Body Dia. 5mm; Leads 0.55 x 0.50 mm (max))
pins: 1 OUT (power), 2 GND (power), 3 IN (power)

## LM340LAZ-5.0/NOPB
designator U?
Series 3-Terminal Positive Regulators, 3-pin TO-92, Pb-Free; PartNumber: LM340LAZ-5.0/NOPB; Manufacturer: National Semiconductor; PackageTopMarking: NSXYTT*340LA*Z-5.0; PowerWise: N; CompType: LDO IC; Published: 1-Mar-2010; DatasheetVersion: Jul-2005; PackageVersion: revG, Sep-2000; PackageReference: Z03A; Publisher: Altium Limited; PackageDescription: TO-92, Molded, 3 Lead; Supplier 1: Digi-Key; Supplier Part Number 1: LM340LAZ-5.0-ND; Supplier 2: Farnell; Supplier Part Number 2: 1685490; RoHS: Y; PinCount: 3; Code_JEDEC: TO-226-AA; ComponentLink1Description: LM340L Datasheet; ComponentLink1URL: http://www.national.com/ds/LM/LM340L.pdf; ComponentLink2Description: LM340L Web Page; ComponentLink2URL: http://www.national.com/pf/LM/LM340L.html; ComponentLink3Description: Z03A Package Page; ComponentLink3URL: http://www.national.com/packaging/folders/z03a.html
footprint Z03A (TO, Flat Index; 3 In-Line, Axial Leads; Body Dia. 5mm; Leads 0.55 x 0.50 mm (max))
pins: 1 OUT (power), 2 GND (power), 3 IN (power)

## LM340MP-5.0
designator U?
Series 3-Terminal Positive Regulators, 4-pin SOT-223; PartNumber: LM340MP-5.0; Manufacturer: National Semiconductor; PackageTopMarking: XYTT*N00A; PowerWise: N; CompType: LDO IC; Published: 4-Dec-2008; DatasheetVersion: Jul-2006; PackageVersion: revB, Apr-2003; PackageReference: MP04A; Publisher: Altium Limited; PackageDescription: Molded SOT-223, 6.50 x 3.56 x 1.6mm Body, 4 Lead, 2.3mm Pitch; Supplier 1: Farnell; Supplier Part Number 1: 9778527RL; Supplier 2: Farnell; Supplier Part Number 2: 9778527; RoHS: N; PinCount: 4; Code_JEDEC: TO-261-AA; Code_IPC: SOT223-4; ComponentLink1Description: LM340 Datasheet; ComponentLink1URL: http://www.national.com/ds/LM/LM340.pdf; ComponentLink2Description: LM340 Web Page; ComponentLink2URL: http://www.national.com/pf/LM/LM340.html; ComponentLink3Description: MP04A Package Page; ComponentLink3URL: http://www.national.com/packaging/folders/mp04a.html
footprint MP04A_N (SOT223, 4-Leads, Body 6.5x3.5mm, Pitch 2.3mm, Lead Span 7mm, IPC Medium Density)
footprint MP04A_L (SOT223, 4-Leads, Body 6.5x3.5mm, Pitch 2.3mm, Lead Span 7mm, IPC High Density)
footprint MP04A_M (SOT223, 4-Leads, Body 6.5x3.5mm, Pitch 2.3mm, Lead Span 7mm, IPC Low Density)
pins: 1 IN (power), 2 GND (power), 3 OUT (power), 4 TAB (power)

## LM340MP-5.0/NOPB
designator U?
Series 3-Terminal Positive Regulators, 4-pin SOT-223, Pb-Free; PartNumber: LM340MP-5.0/NOPB; Manufacturer: National Semiconductor; PackageTopMarking: XYTT*N00A; PowerWise: N; CompType: LDO IC; Published: 1-Mar-2010; DatasheetVersion: Jul-2006; PackageVersion: revB, Apr-2003; PackageReference: MP04A; Publisher: Altium Limited; PackageDescription: Molded SOT-223, 6.50 x 3.56 x 1.6mm Body, 4 Lead, 2.3mm Pitch; Supplier 1: Digi-Key; Supplier Part Number 1: LM340MP-5.0TR-ND; Supplier 2: Digi-Key; Supplier Part Number 2: LM340MP-5.0CT-ND; Supplier 3: Digi-Key; Supplier Part Number 3: LM340MP-5.0DKR-ND; Supplier 4: Farnell; Supplier Part Number 4: 1469097; RoHS: Y; PinCount: 4; Code_JEDEC: TO-261-AA; Code_IPC: SOT223-4; ComponentLink1Description: LM340 Datasheet; ComponentLink1URL: http://www.national.com/ds/LM/LM340.pdf; ComponentLink2Description: LM340 Web Page; ComponentLink2URL: http://www.national.com/pf/LM/LM340.html; ComponentLink3Description: MP04A Package Page; ComponentLink3URL: http://www.national.com/packaging/folders/mp04a.html
footprint MP04A_N (SOT223, 4-Leads, Body 6.5x3.5mm, Pitch 2.3mm, Lead Span 7mm, IPC Medium Density)
footprint MP04A_L (SOT223, 4-Leads, Body 6.5x3.5mm, Pitch 2.3mm, Lead Span 7mm, IPC High Density)
footprint MP04A_M (SOT223, 4-Leads, Body 6.5x3.5mm, Pitch 2.3mm, Lead Span 7mm, IPC Low Density)
pins: 1 IN (power), 2 GND (power), 3 OUT (power), 4 TAB (power)

## LM340MPX-5.0
designator U?
Series 3-Terminal Positive Regulators, 4-pin SOT-223; PartNumber: LM340MPX-5.0; Manufacturer: National Semiconductor; PackageTopMarking: XYTT*N00A; PowerWise: N; CompType: LDO IC; Published: 1-Mar-2010; DatasheetVersion: Jul-2006; PackageVersion: revB, Apr-2003; PackageReference: MP04A; Publisher: Altium Limited; PackageDescription: Molded SOT-223, 6.50 x 3.56 x 1.6mm Body, 4 Lead, 2.3mm Pitch; RoHS: N; PinCount: 4; Code_JEDEC: TO-261-AA; Code_IPC: SOT223-4; ComponentLink1Description: LM340 Datasheet; ComponentLink1URL: http://www.national.com/ds/LM/LM340.pdf; ComponentLink2Description: LM340 Web Page; ComponentLink2URL: http://www.national.com/pf/LM/LM340.html; ComponentLink3Description: MP04A Package Page; ComponentLink3URL: http://www.national.com/packaging/folders/mp04a.html
footprint MP04A_N (SOT223, 4-Leads, Body 6.5x3.5mm, Pitch 2.3mm, Lead Span 7mm, IPC Medium Density)
footprint MP04A_L (SOT223, 4-Leads, Body 6.5x3.5mm, Pitch 2.3mm, Lead Span 7mm, IPC High Density)
footprint MP04A_M (SOT223, 4-Leads, Body 6.5x3.5mm, Pitch 2.3mm, Lead Span 7mm, IPC Low Density)
pins: 1 IN (power), 2 GND (power), 3 OUT (power), 4 TAB (power)

## LM340S-5.0
designator U?
Series 3-Terminal Positive Regulators, 3-pin TO-263; PartNumber: LM340S-5.0; Manufacturer: National Semiconductor; PackageTopMarking: NSUZXYTTE#*LM340S*-5.0 P+; PowerWise: N; CompType: LDO IC; Published: 4-Dec-2008; DatasheetVersion: Jul-2006; PackageVersion: revF, Apr-2005; PackageReference: TS3B; Publisher: Altium Limited; PackageDescription: TO-263, Molded, .400 x .390 x .180in, 3 Lead, .1in Pitch, Surface Mount; Supplier 1: Farnell; Supplier Part Number 1: 9494502; RoHS: N; PinCount: 3; Code_JEDEC: MO-169-AA; ComponentLink1Description: LM340 Datasheet; ComponentLink1URL: http://www.national.com/ds/LM/LM340.pdf; ComponentLink2Description: LM340 Web Page; ComponentLink2URL: http://www.national.com/pf/LM/LM340.html; ComponentLink3Description: TS3B Package Page; ComponentLink3URL: http://www.national.com/packaging/folders/ts3b.html
footprint TS3B_N (D2-PAK, 4-Leads, Body 8.6x10.2mm, Pitch 2.54mm, Lead Span 14.2mm, IPC Medium Density)
footprint TS3B_L (D2-PAK, 4-Leads, Body 8.6x10.2mm, Pitch 2.54mm, Lead Span 14.2mm, IPC High Density)
footprint TS3B_M (D2-PAK, 4-Leads, Body 8.6x10.2mm, Pitch 2.54mm, Lead Span 14.2mm, IPC Low Density)
pins: 1 IN (power), 2 GND (power), 3 OUT (power), 4 TAB (power)

## LM340S-5.0/NOPB
designator U?
Series 3-Terminal Positive Regulators, 3-pin TO-263, Pb-Free; PartNumber: LM340S-5.0/NOPB; Manufacturer: National Semiconductor; PackageTopMarking: NSUZXYTTE#*LM340S*-5.0 P+; PowerWise: N; CompType: LDO IC; Published: 1-Mar-2010; DatasheetVersion: Jul-2006; PackageVersion: revF, Apr-2005; PackageReference: TS3B; Publisher: Altium Limited; PackageDescription: TO-263, Molded, .400 x .390 x .180in, 3 Lead, .1in Pitch, Surface Mount; Supplier 1: Digi-Key; Supplier Part Number 1: LM340S-5.0-ND; Supplier 2: Farnell; Supplier Part Number 2: 1469021; RoHS: Y; PinCount: 3; Code_JEDEC: MO-169-AA; ComponentLink1Description: LM340 Datasheet; ComponentLink1URL: http://www.national.com/ds/LM/LM340.pdf; ComponentLink2Description: LM340 Web Page; ComponentLink2URL: http://www.national.com/pf/LM/LM340.html; ComponentLink3Description: TS3B Package Page; ComponentLink3URL: http://www.national.com/packaging/folders/ts3b.html
footprint TS3B_N (D2-PAK, 4-Leads, Body 8.6x10.2mm, Pitch 2.54mm, Lead Span 14.2mm, IPC Medium Density)
footprint TS3B_L (D2-PAK, 4-Leads, Body 8.6x10.2mm, Pitch 2.54mm, Lead Span 14.2mm, IPC High Density)
footprint TS3B_M (D2-PAK, 4-Leads, Body 8.6x10.2mm, Pitch 2.54mm, Lead Span 14.2mm, IPC Low Density)
pins: 1 IN (power), 2 GND (power), 3 OUT (power), 4 TAB (power)